# Altium footprint library 15W_FP.PcbLib: 26 footprints (part 1 of 2)
Each footprint in its own frame and in the unit in brackets; x right, y up, seen from the top. Pads: shape width x height; smd on the part's side, far side on the other; paste and mask are expansions set on the pad; w line width, h text height; cw(c..) or ccw(c..) is an arc to the next point about the centre after c.
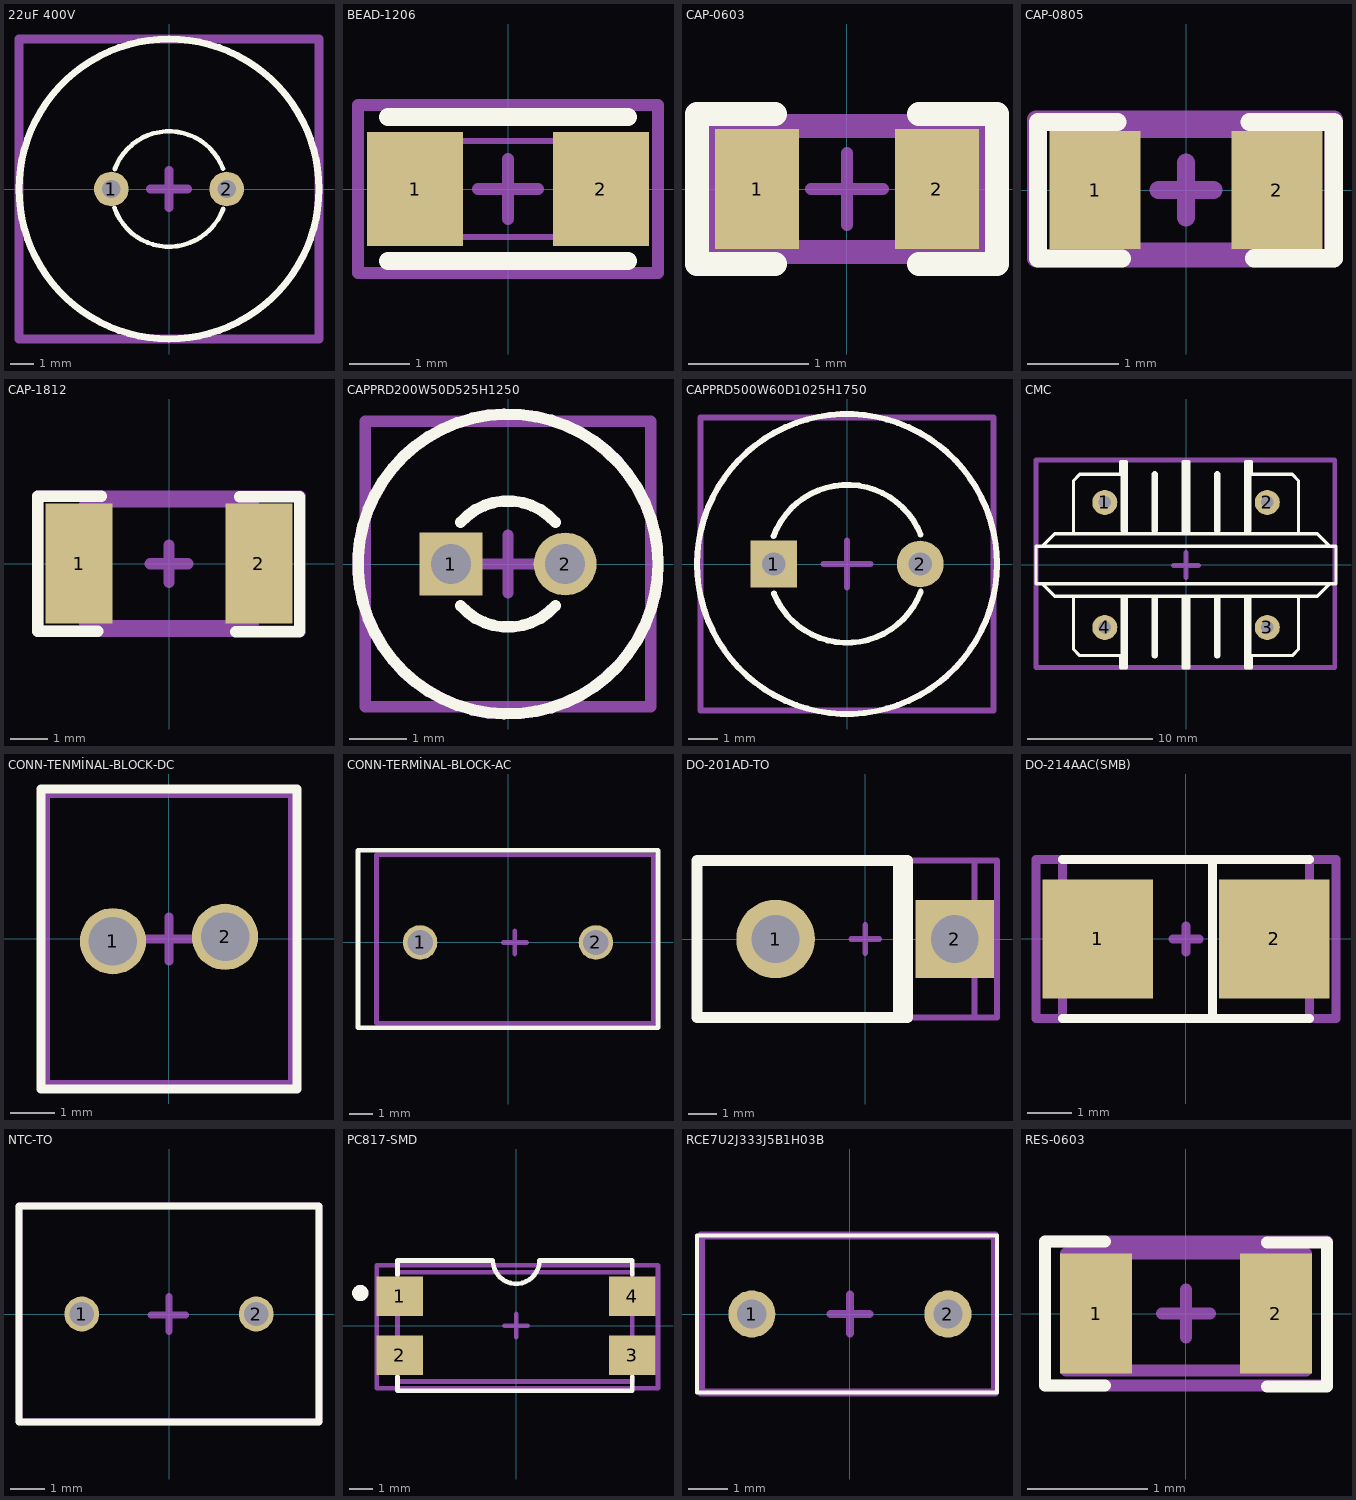
[diagram p0: the footprints below, top view; thin cyan lines are the x and y axes]

## 22uF 400V [mm]
pads (2):
  round 1.5 hole 0.8 mask+0.05: 1(-2.5,0) 2(2.5,0)
Top Overlay:
  circle w0.3: c0,0 r6.5
  lines w0.2: -2.362,-0.818 ccw(c0,0) 2.349,-0.854 ; -2.349,0.854 cw(c0,0) 2.341,0.878
Top 3D Body:
  lines w0.4: -6.5,-6.5 6.5,-6.5 6.5,6.5 -6.5,6.5 -6.5,-6.5
Top Compenent Center:
  lines w0.4: -0.8,0 0.8,0 ; 0,-0.8 0,0.8 ; -6.5,-6.5 -6.5,6.5 6.5,6.5 6.5,-6.5 -6.5,-6.5
Top Designator:
  lines w0.4: -6.5,-6.5 -6.5,6.5 6.5,6.5 6.5,-6.5 -6.5,-6.5
  text ".Designator" at -8.25,-1.517 h2.5
3D body "13x20x5x0.6.stp": height 21.11, standoff -19.11, extent -6.5,-6.497 6.49,6.5

## BEAD-1206 [mm]
pads (2):
  rect 1.6x1.9 smd: 1(-1.55,0) 2(1.55,0)
Top Overlay:
  lines w0.3: -2,-1.2 2,-1.2 ; -2,1.2 2,1.2
Top 3D Body:
  lines w0.1: -1.6,-0.8 -1.6,0.8 1.6,0.8 1.6,-0.8 -1.6,-0.8
Top Compenent Center:
  lines w0.2: -0.5,0 0.5,0 ; 0,-0.5 0,0.5 ; -2.5,-1.4 2.5,-1.4 2.5,1.4 -2.5,1.4 -2.5,-1.4
Top Designator:
  lines w0.2: -2.5,-1.4 -2.5,1.4 2.5,1.4 2.5,-1.4 -2.5,-1.4
  text ".Designator" at -5.55,-0.917 h2.5
3D body "HI1206T500R-10.stp": height 1.3, standoff 0, extent -1.6,-0.8 1.6,0.8

## CAP-0603 [mm]
pads (2):
  rect 0.7x1 smd mask+0.05: 1(-0.75,0) 2(0.75,0)
Top Overlay:
  lines w0.2: -0.6,-0.625 -1.25,-0.625 -1.25,0.625 -0.6,0.625 ; 0.6,-0.625 1.25,-0.625 1.25,0.625 0.6,0.625
Top 3D Body:
  lines w0.2: -1.075,-0.525 1.05,-0.525 1.05,0.525 -1.075,0.525 -1.075,-0.525
Top Compenent Center:
  lines w0.1: -0.3,0 0.3,0 ; 0,-0.3 0,0.3 ; -1.125,-0.575 1.1,-0.575 1.1,0.575 -1.125,0.575 -1.125,-0.575
Top Designator:
  lines w0.1: -1.125,-0.575 1.1,-0.575 1.1,0.575 -1.125,0.575 -1.125,-0.575
  text ".Designator" at -2.35,-0.917 h2.5
3D body "CAPC0603.STEP": height 0.8, standoff 0, extent -1.05,-0.514 1.05,0.514

## CAP-0805 [mm]
pads (2):
  rect 1x1.3 smd mask+0.05: 1(-1,0) 2(1,0)
Top Overlay:
  lines w0.2: -0.753,0.748 -1.628,0.748 -1.628,-0.752 -0.703,-0.752 ; 0.7,0.75 1.625,0.75 1.625,-0.75 0.75,-0.75
Top 3D Body:
  lines w0.2: -1.3,-0.675 -1.3,0.675 1.3,0.675 1.3,-0.675 -1.3,-0.675
Top Compenent Center:
  lines w0.2: -0.3,0 0.3,0 ; 0,-0.3 0,0.3 ; -1.65,-0.75 1.625,-0.75 1.625,0.775 -1.65,0.775 -1.65,-0.75
Top Designator:
  lines w0.2: -1.65,-0.75 1.625,-0.75 1.625,0.775 -1.65,0.775 -1.65,-0.75
  text ".Designator" at -2.975,-1.317 h2.5
3D body "CAPC0805.STEP": height 0.9, standoff 0, extent -1.301,-0.678 1.301,0.678

## CAP-1812 [mm]
pads (2):
  rect 1.8x3.2 smd mask+0.05: 1(-2.4,0) 2(2.4,0)
Top Overlay:
  lines w0.3: -1.9,-1.8 -3.5,-1.8 -3.5,1.8 -1.8,1.8 ; 1.778,-1.815 3.478,-1.815 3.478,1.785 1.878,1.785
Top 3D Body:
  lines w0.2: -2.3,-1.6 -2.3,1.6 2.3,1.6 2.3,-1.6 -2.3,-1.6
Top Compenent Center:
  lines w0.3: -0.5,0 0.5,0 ; 0,-0.5 0,0.5 ; -3.5,-1.8 -3.5,1.8 3.5,1.8 3.5,-1.8 -3.5,-1.8
Top Designator:
  lines w0.3: -3.5,-1.8 3.5,-1.8 3.5,1.8 -3.5,1.8 -3.5,-1.8
  text ".Designator" at -4.85,-1.217 h2.5
3D body "C1812C104KDRAC7800.step": height 1.85, standoff 0, extent -2.25,-1.6 2.25,1.6

## CAPPRD200W50D525H1250 [mm]
pads (2):
  rect 1.1x1.1 hole 0.7: 1(-1,0)
  round 1.1 hole 0.7: 2(1,0)
Top Overlay:
  circle w0.2: c0,0 r2.625
  lines w0.2: -0.831,-0.727 ccw(c0,0) 0.831,-0.727 ; -0.831,0.727 cw(c0,0) 0.831,0.727
Top 3D Body:
  lines w0.2: -2.5,-2.5 -2.5,2.5 2.5,2.5 2.5,-2.5 -2.5,-2.5
Top Compenent Center:
  circle w0.2: c0,0 r2.625
  lines w0.2: -0.5,0 0.5,0 ; 0,-0.5 0,0.5
Top Designator:
  circle w0.2: c0,0 r2.625
  text ".Designator" at -3.75,-1.017 h2.5
3D body "5x11x2x0.5.stp": height 11.31, standoff -19.91, extent -2.484,-2.499 2.506,2.5

## CAPPRD500W60D1025H1750 [mm]
pads (2):
  rect 1.6x1.6 hole 0.8: 1(-2.5,0)
  round 1.6 hole 0.8: 2(2.5,0)
Top Overlay:
  circle w0.2: c0,0 r5.125
  lines w0.2: -2.508,0.958 cw(c0.013,0.013) 2.513,1.013 ; -2.5,-1 ccw(c0,0) 2.521,-0.945
Top 3D Body:
  lines w0.2: -5,-5 5,-5 5,5 -5,5 -5,-5
Top Compenent Center:
  circle w0.2: c0,0 r5.125
  lines w0.2: -0.8,0 0.8,0 ; 0,-0.8 0,0.8
Top Designator:
  circle w0.2: c0,0 r5.125
  text ".Designator" at -6.55,-0.717 h2.5
3D body "10x20x5x0.6.stp": height 20.26, standoff -19.96, extent -4.977,-4.998 5.005,5

## CMC [mm]
pads (4):
  round 2 hole 1: 1(-6.5,5) 2(6.5,5) 3(6.5,-5) 4(-6.5,-5)
Top Overlay:
  lines w0.254: -11.5,-1.5 -10.5,-2.5 10.5,-2.5 11.5,-1.5 ; -11.5,1.5 -10.5,2.5 10.5,2.5 11.5,1.5 ; -9.25,2.5 9.25,2.5 ; -9,-2.5 -9,-6.75 -8.5,-7.25 -5.25,-7.25 -5.25,-8.25 -4.75,-8.25 -4.75,-2.5 ; -9,2.5 -9,6.75 -8.5,7.25 -5.25,7.25 -5.25,8.25 -4.75,8.25 -4.75,2.5 ; -0.25,-2.5 -0.25,-8.25 0.25,-8.25 0.25,-2.5 ; -0.25,2.5 -0.25,8.25 0.25,8.25 0.25,2.5 ; 4.75,-2.5 4.75,-8.25 5.25,-8.25 5.25,-7.25 8.5,-7.25 9,-6.75 9,-2.5 ; 4.75,2.5 4.75,8.25 5.25,8.25 5.25,7.25 8.5,7.25 9,6.75 9,2.5 ; -12,-1.5 -12,1.5 12,1.5 12,-1.5 -12,-1.5
  lines w0.508: -5,-8 -5,-2.75 ; -5,2.75 -5,8 ; -2.5,-7.25 -2.5,-2.75 ; -2.5,2.75 -2.5,7.25 ; 0,-8 0,-2.75 ; 0,2.75 0,8 ; 2.5,-7.25 2.5,-2.75 ; 2.5,2.75 2.5,7.25 ; 5,-8 5,-2.75 ; 5,2.75 5,8
Top 3D Body:
  lines w0.4: -12,-8.2 -12,8.4 11.9,8.4 11.9,-8.2 -12,-8.2
Top Compenent Center:
  lines w0.4: -1.002,-0.056 0.998,-0.056 ; 0,-1 0,1 ; -12,-8.2 11.9,-8.2 11.9,8.4 -12,8.4 -12,-8.2
Top Designator:
  lines w0.4: -12,-8.2 -12,8.4 11.9,8.4 11.9,-8.2 -12,-8.2
  text ".Designator" at -12.75,-0.917 h2.5
3D body "B82732R2701B030.stp": height 23.6, standoff -2.9, extent -12.048,-8.254 11.952,8.246

## CONN-TENMİNAL-BLOCK-DC [mm]
pads (2):
  round 1.5 hole 1.1 mask+0.05: 1(-1.27,-0.05) 2(1.27,0.05)
Top Overlay:
  lines w0.2: -2.9,-3.4 2.9,-3.4 2.9,3.4 -2.9,3.4 -2.9,-3.4
Top 3D Body:
  lines w0.2: -2.8,-3.3 2.8,-3.3 2.8,3.3 -2.8,3.3 -2.8,-3.3
Top Compenent Center:
  lines w0.2: -0.5,0 0.5,0 ; 0,-0.5 0,0.5 ; -2.8,-3.3 2.8,-3.3 2.8,3.3 -2.8,3.3 -2.8,-3.3
Top Designator:
  lines w0.2: -2.8,-3.3 -2.8,3.3 2.8,3.3 2.8,-3.3 -2.8,-3.3
  text ".Designator" at -4.55,-1.217 h2.5
3D body "691210910002.stp": height 10.05, standoff -1.95, extent -2.74,-3.25 2.74,3.25

## CONN-TERMİNAL-BLOCK-AC [mm]
pads (2):
  round 1.5 hole 1.1 mask+0.05: 1(-3.81,0) 2(3.81,0)
Top Overlay:
  lines w0.2: -6.5,-3.7 -6.5,4 6.5,4 6.5,-3.7 -6.5,-3.7
Top 3D Body:
  lines w0.2: -5.7,-3.5 6.3,-3.5 6.3,3.8 -5.7,3.8 -5.7,-3.5
Top Compenent Center:
  lines w0.2: -0.2,0 0.8,0 ; 0.3,-0.5 0.3,0.5 ; -5.7,-3.5 -5.7,3.8 6.3,3.8 6.3,-3.5 -5.7,-3.5
Top Designator:
  lines w0.2: -5.7,-3.5 6.3,-3.5 6.3,3.8 -5.7,3.8 -5.7,-3.5
  text ".Designator" at -7.15,-0.717 h2.5
3D body "691214410002.stp": height 10.1, standoff -2.5, extent -5.715,-3.5 6.315,3.8

## DO-201AD-TO [mm]
pads (2):
  round 2.8 hole 1.7: 1(-3.199,0)
  rect 2.8x2.8 hole 1.7: 2(3.199,0)
Top Overlay:
  lines w0.4: 1.2,-2.7 1.2,2.8 ; -6,-2.8 1.5,-2.8 1.5,2.8 -6,2.8 -6,-2.8
Top 3D Body:
  lines w0.2: -6,-2.8 3.9,-2.8 3.9,2.8 -6,2.8 -6,-2.8
Top Compenent Center:
  lines w0.2: -0.5,0 0.5,0 ; 0,-0.5 0,0.5 ; -5.999,-2.8 4.701,-2.8 4.701,2.8 -5.999,2.8 -5.999,-2.8
Top Designator:
  lines w0.2: -5.999,-2.8 -5.999,2.8 4.701,2.8 4.701,-2.8 -5.999,-2.8
  text ".Designator" at -6.65,-0.917 h2.5
3D body "User Library-User Library-DO-201AV-Vertical_2001.STEP": height 15.69, standoff -3, extent -5.999,-2.8 3.891,2.8

## DO-214AAC(SMB) [mm]
pads (2):
  rect 2.5x2.7 smd mask+0.05: 1(-2,0) 2(2,0)
Top Overlay:
  lines w0.2: -2.8,-1.8 2.8,-1.8 ; -2.8,1.8 2.8,1.8 ; 0.6,-1.8 0.6,1.8
Top 3D Body:
  lines w0.2: -2.8,-1.8 -2.8,1.8 2.8,1.8 2.8,-1.8 -2.8,-1.8
Top Compenent Center:
  lines w0.2: -0.3,0 0.3,0 ; 0,-0.3 0,0.3 ; -3.4,-1.8 -3.4,1.8 3.4,1.8 3.4,-1.8 -3.4,-1.8
Top Designator:
  lines w0.2: -3.4,-1.8 -3.4,1.8 3.4,1.8 3.4,-1.8 -3.4,-1.8
  text ".Designator" at -5.55,-1.017 h2.5
3D body "DO214AA.step": height 2.27, standoff -0.03, extent -2.7,-1.8 2.7,1.8

## NTC-TO [mm]
pads (2):
  round 1 hole 0.7 mask+0.05: 1(-2.5,0) 2(2.5,0)
Top Overlay:
  lines w0.2: -4.3,-3.1 -4.3,3.1 4.3,3.1 4.3,-3.1 -4.3,-3.1
Top 3D Body:
  lines w0.2: -4.3,-3.1 4.3,-3.1 4.3,3.1 -4.3,3.1 -4.3,-3.1
Top Compenent Center:
  lines w0.2: -0.52,-0.033 0.48,-0.033 ; 0,-0.5 0,0.5 ; -4.3,-3.1 -4.3,3.1 4.3,3.1 4.3,-3.1 -4.3,-3.1
Top Designator:
  lines w0.2: -4.3,-3.1 4.3,-3.1 4.3,3.1 -4.3,3.1 -4.3,-3.1
  text ".Designator" at -5.75,-1.117 h2.5
3D body "NTC F5 D8.5 B6 H13.step": height 13, standoff -3.6, extent -4.246,-3.1 4.246,3.1

## PC817-SMD [mm]
pads (4):
  rect 2x1.7 smd mask+0.05: 1(-5,1.27) 2(-5,-1.27) 3(5,-1.27) 4(5,1.27)
Top Overlay:
  circle w0.5: c-6.7,1.4 r0.1
  lines w0.2: -5.1,-2.2 -5.1,-2.8 5,-2.8 5,-2.2 ; -5.1,2.2 -5.1,2.8 -1,2.8 ccw(c0,2.8) 1,2.8 5,2.8 5,2.2
Top 3D Body:
  lines w0.2: -5.1,-2.4 -5.1,2.3 5,2.3 5,-2.4 -5.1,-2.4
Top Compenent Center:
  lines w0.2: -0.5,0 0.5,0 ; 0,-0.5 0,0.5 ; -6,-2.7 6.1,-2.7 6.1,2.6 -6,2.6 -6,-2.7
Top Designator:
  lines w0.2: -6,-2.7 -6,2.6 6.1,2.6 6.1,-2.7 -6,-2.7
  text ".Designator" at -7.85,-1.117 h2.5
3D body "TPC817S1A_RAG.stp": height 3.88, standoff 0, extent -5.025,-2.3 5.025,2.3

## RCE7U2J333J5B1H03B [mm]
pads (2):
  round 1.2 hole 0.75: 1(-2.5,0) 2(2.5,0)
Top Overlay:
  lines w0.1: -3.9,-2 3.75,-2 3.75,2 -3.9,2 -3.9,-2
Top 3D Body:
  lines w0.2: -3.8,-2 3.7,-2 3.7,2 -3.8,2 -3.8,-2
Top Compenent Center:
  lines w0.2: -0.5,0 0.5,0 ; 0,-0.5 0,0.5 ; -3.8,-2 -3.8,2 3.7,2 3.7,-2 -3.8,-2
Top Designator:
  lines w0.2: -3.8,-2 3.7,-2 3.7,2 -3.8,2 -3.8,-2
  text ".Designator" at -5.25,-1.117 h2.5
3D body "RDER73A104K5B1H03B.stp": height 9.75, standoff -19.25, extent -3.786,-1.993 3.714,2.007

## RES-0603 [mm]
pads (2):
  rect 0.6x1 smd mask+0.05: 1(-0.75,0) 2(0.75,0)
Top Overlay:
  lines w0.1: -0.675,-0.6 -1.175,-0.6 -1.175,0.6 -0.675,0.6 ; 0.675,-0.606 1.175,-0.606 1.175,0.594 0.675,0.594
Top 3D Body:
  lines w0.1: -1,-0.475 1,-0.475 1,0.5 -1,0.5 -1,-0.475
Top Compenent Center:
  lines w0.1: -0.2,0 0.2,0 ; 0,-0.2 0,0.2 ; -1.175,-0.6 -1.175,0.6 1.175,0.6 1.175,-0.6 -1.175,-0.6
Top Designator:
  lines w0.1: -1.175,-0.6 1.175,-0.6 1.175,0.6 -1.175,0.6 -1.175,-0.6
  text ".Designator" at -0.975,-0.158 h0.5
3D body "0603S1.STEP": height 0.43, standoff -0.02, extent -0.988,-0.479 0.988,0.5